# Altium footprint library USB TYPE-A.PcbLib: 1 footprints
Each footprint in its own frame and in the unit in brackets; x right, y up, seen from the top. Pads: shape width x height; smd on the part's side, far side on the other; paste and mask are expansions set on the pad; w line width, h text height; cw(c..) or ccw(c..) is an arc to the next point about the centre after c.
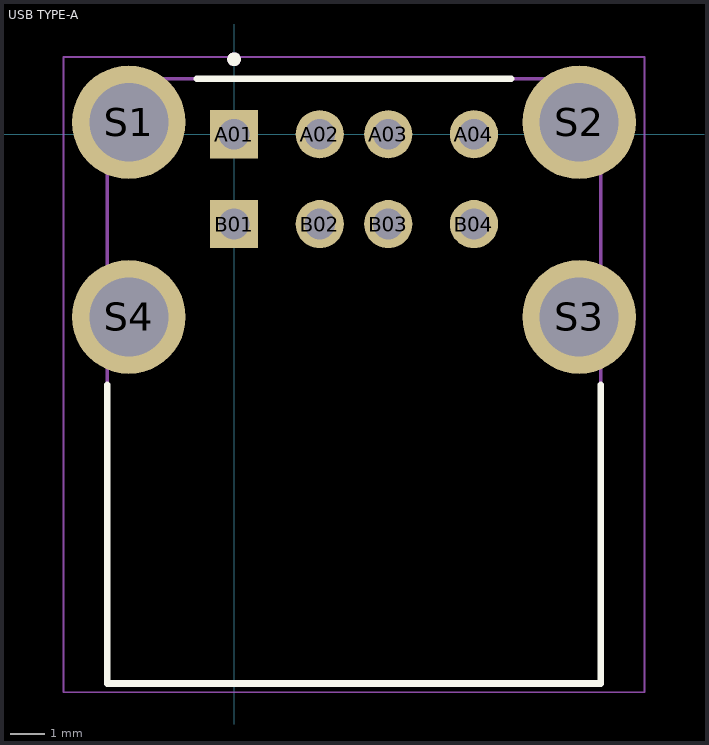
[diagram p0: the footprint, top view; thin cyan lines are the x and y axes]

## USB TYPE-A [mm]
pads (12):
  rect 1.408x1.408 hole 0.9: A01(0,0) B01(0,-2.62)
  round 1.408 hole 0.9: A02(2.5,0) A03(4.5,0) A04(7,0) B02(2.5,-2.62) B03(4.5,-2.62) B04(7,-2.62)
  round 3.316 hole 2.3: S1(-3.07,0.35) S2(10.07,0.35) S3(10.07,-5.33) S4(-3.07,-5.33)
Top Overlay:
  circle w0.2: c0,2.19 r0.1
  lines w0.2: -3.7,-7.32 -3.7,-16.03 10.7,-16.03 10.7,-7.32 ; -1.08,1.62 8.08,1.62
Mechanical 13:
  circle w0.2: c0,2.19 r0.1
  lines w0.1: -3.7,-16.03 10.7,-16.03 10.7,1.62 -3.7,1.62 -3.7,-16.03
Mechanical 15:
  lines w0.05: -4.98,-16.28 11.98,-16.28 11.98,2.255 -4.98,2.255 -4.98,-16.28
3D body "USB TYPE-A 2.0 8P.stp": height 16.1, standoff -4.2, extent -4.319,-15.988 11.278,1.662